# EAGLE library part MX25R8035FBDIL0 (library MX25R8035FBDIL0)
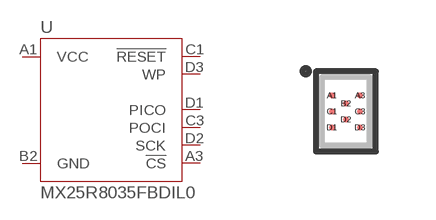
[diagram p0: symbol with the pads of MX25R8035FBDIL0; footprint MX25R8035FBDIL0]

Designator prefix U

## MX25R8035FBDIL0  [MX25R8035FBDIL0]
A1  VCC
A3  !CS!
B2  GND
C1  !RESET!
C3  POCI
D1  PICO
D2  SCK
D3  WP

## Footprint MX25R8035FBDIL0 (pad centres in mm)
smd 0.15 x 0.15: A1 -0.35,0.4; A3 0.35,0.4; B2 0,0.2; C1 -0.35,0; C3 0.35,0; D1 -0.35,-0.4; D2 0,-0.2; D3 0.35,-0.4